# Altium footprint library PCB - CONNECTOR - BEL FUSE - BEL FUSE SI-46020-F.PcbLib: 1 footprints
Each footprint in its own frame and in the unit in brackets; x right, y up, seen from the top. Pads: shape width x height; smd on the part's side, far side on the other; paste and mask are expansions set on the pad; w line width, h text height; cw(c..) or ccw(c..) is an arc to the next point about the centre after c.
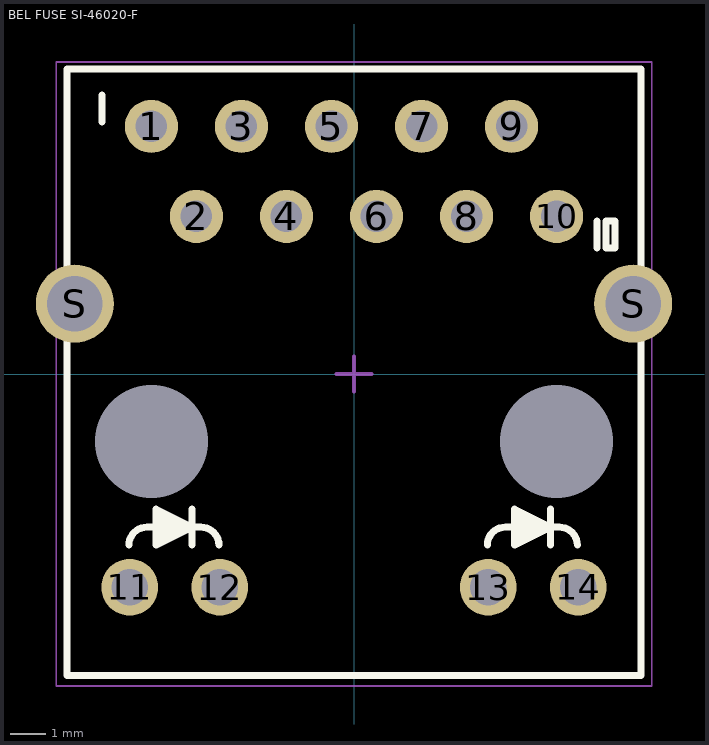
[diagram p0: the footprint, top view; thin cyan lines are the x and y axes]

## BEL FUSE SI-46020-F [mm] "1 Port RJ45Through Hole 10/100 Base-T, AutoMDIX, Power over Ethernet (PoE)"
height 17.27
pads (18):
  round 1.5 hole 0.89: 1(-5.715,6.985) 2(-4.445,4.445) 3(-3.175,6.985) 4(-1.905,4.445) 5(-0.635,6.985) 6(0.635,4.445) 7(1.905,6.985) 8(3.175,4.445) 9(4.445,6.985) 10(5.715,4.445)
  round 1.6 hole 1.02: 11(-6.325,-6.015) 12(-3.785,-6.015) 13(3.785,-6.015) 14(6.325,-6.015)
  round 2.2 hole 1.57: S(-7.875,1.985) S(7.875,1.985)
  round 0 hole 3.18 unplated: S1(-5.715,-1.905) S1(5.715,-1.905)
Top Overlay:
  region: -5.588,-3.81 -4.572,-4.318 -5.588,-4.826
  region: 4.522,-3.81 5.538,-4.318 4.522,-4.826
  lines w0.2: -7.112,7.112 -7.112,7.874 ; -6.35,-4.826 cw(c-5.842,-4.826) -5.842,-4.318 -4.318,-4.318 cw(c-4.318,-4.826) -3.81,-4.826 ; -4.572,-4.826 -4.572,-3.81 ; 3.76,-4.826 cw(c4.268,-4.826) 4.268,-4.318 5.792,-4.318 cw(c5.792,-4.826) 6.3,-4.826 ; 5.538,-4.826 5.538,-3.81 ; 6.858,3.556 6.858,4.318 ; -8.1,-8.5 8.1,-8.5 8.1,8.6 -8.1,8.6 -8.1,-8.5 ; -5.588,-4.826 -4.572,-4.318 -5.588,-3.81 -5.588,-4.826 ; 4.522,-4.826 5.538,-4.318 4.522,-3.81 4.522,-4.826 ; 7.112,3.556 7.366,3.556 7.366,4.318 7.112,4.318 7.112,3.556
Mechanical 13:
  lines w0.1: -8.1,-8.5 8.1,-8.5 8.1,8.6 -8.1,8.6 -8.1,-8.5
Mechanical 15:
  lines w0.05: -8.4,-8.8 8.4,-8.8 8.4,8.8 -8.4,8.8 -8.4,-8.8
  lines w0.1: -0.5,0 0.5,0 ; 0,-0.5 0,0.5
3D body "Bel Fuse SI-46020-F.step": height 17.02, standoff -3.94, extent -8.128,-8.509 8.128,8.56